# Altium schematic symbol library LT5400AIMS8E.SchLib: 1 symbol
Pins are listed as number, name and electrical type; pins without a type are passive.

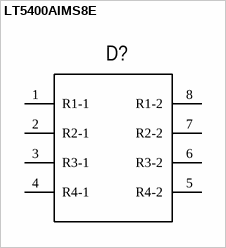
[diagram p0: symbol LT5400AIMS8E]

## LT5400AIMS8E
designator D?  (value not drawn)
pins: 1 R1-1, 2 R2-1, 3 R3-1, 4 R4-1, 5 R4-2, 6 R3-2, 7 R2-2, 8 R1-2, 9 THPAD hidden